# Altium integrated library PTA4543-2015DPB103.IntLib: 1 symbol
Pins are listed as number, name and electrical type; pins without a type are passive.

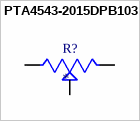
[diagram p0: symbol PTA4543-2015DPB103]

## PTA4543-2015DPB103
designator R?
10 kOhms 0.25W, 1/4W Through Hole Slide Potentiometer Top Adjustment Type; MP: PTA4543-2015DPB103; MF: Bourns; Availability: In Stock; Purchase-URL: https://pricing.snapeda.com/search/part/PTA4543-2015DPB103/?ref=eda; SnapEDA_Link: https://www.snapeda.com/parts/PTA4543-2015DPB103/Bourns/view-part/?ref=snap; Price: None; Package: None; Value: *; Check_prices: https://www.snapeda.com/parts/PTA4543-2015DPB103/Bourns/view-part/?ref=eda
footprint TRIM_PTA4543-2015DPB103
pins: 1, 2, 3